# Altium schematic symbol library ADR02AUJZ.Schlib: 1 symbol
Pins are listed as number, name and electrical type; pins without a type are passive.

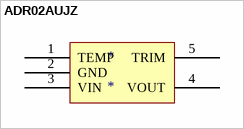
[diagram p0: symbol ADR02AUJZ]

## ADR02AUJZ
designator *
pins: 1 TEMP, 2 GND, 3 VIN, 4 VOUT, 5 TRIM